# EAGLE library part BQ5105XB (library TI-BQ51051B)
High-Efficiency Qi v1.1-Compliant Wireless Power Receiver and Battery Charger
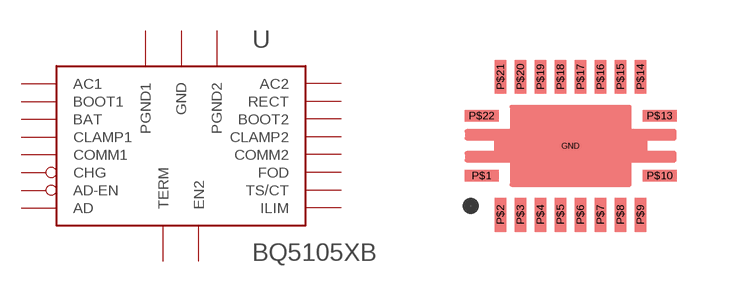
[diagram p0: symbol with the pads of R-PVQFN-N20; footprint R-PVQFN-N20]

Designator prefix -

## BQ5105XB  [R-PVQFN-N20]
GND  GND  pwr
P$1  PGND1  pwr
P$2  AC1  in
P$3  BOOT1  out
P$4  BAT  out
P$5  CLAMP1  out
P$6  COMM1  out
P$7  CHG  out
P$8  AD-EN  out
P$9  AD  in
P$10  TERM  in
P$13  EN2  in
P$14  ILIM
P$15  TS/CT
P$16  FOD  in
P$17  COMM2  out
P$18  CLAMP2  out
P$19  BOOT2  out
P$20  RECT  out
P$21  AC2  in
P$22  PGND2  pwr

## Footprint R-PVQFN-N20 (pad centres in mm)
smd 0.25 x 0.25: GND 0,0
smd 0.85 x 0.28: P$1 -2.225,-0.75; P$10 2.225,-0.75; P$13 2.225,0.75; P$22 -2.225,0.75
smd 0.28 x 0.85: P$2 -1.75,-1.725; P$3 -1.25,-1.725; P$4 -0.75,-1.725; P$5 -0.25,-1.725; P$6 0.25,-1.725; P$7 0.75,-1.725; P$8 1.25,-1.725; P$9 1.75,-1.725; P$14 1.75,1.725; P$15 1.25,1.725; P$16 0.75,1.725; P$17 0.25,1.725; P$18 -0.25,1.725; P$19 -0.75,1.725; P$20 -1.25,1.725; P$21 -1.75,1.725